# Altium schematic symbol library ngv-main.SCHLIB: 4 symbols
Pins are listed as number, name and electrical type; pins without a type are passive.

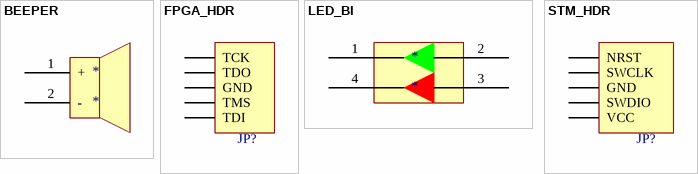
[diagram p0: symbols BEEPER to STM_HDR]

## BEEPER
designator *
footprint BEEPER
pins: 1 +, 2 -

## FPGA_HDR
designator JP?, comment HDR-1X5  (value not drawn)
FPGA; BOM名称: 5P接插件; 版权归属: 源创客; 学习资源: www.ooocke.com
footprint XH2.54-WI-5P (接插件，5P)
footprint XH2.54-LI-5P (接插件，5P)
footprint HDR2.54-LI-5P (排针，5脚)
footprint HDR2.54-M-LI-5P (排母，5脚)
footprint HDR2.54-WI-5P (弯脚排针，5脚)
footprint HDR2.54-WS-5P (5P卧式贴片排针2.54)
footprint HDR2.54-Y-LI-5P (圆孔排母，5脚)
footprint HDR2.54-M-WS-5P (5P卧式贴片排母2.54)
footprint KF2510-LI-5P (接插件/2A)
footprint XH2.54-WS-5P (长：17.5mm，宽：8mm，高：6.1mm)
footprint XH2.54-LS-5P (长：17.5mm，宽：6mm，高：8.3mm)
footprint KF2EDGK-2.54-LI-5P (长：14.6mm，宽：8.1mm，高：10.1mm)
footprint KF2EDGK-2.54-WI-5P (长：14.6mm，宽：10.1mm，高：8.1mm)
pins: 1 TCK, 2 TDO, 3 GND, 4 TMS, 5 TDI

## LED_BI
designator *
footprint LED_BI
pins: 1, 2, 3, 4

## STM_HDR
designator JP?, comment HDR-1X5  (value not drawn)
STM32; BOM名称: 5P接插件; 版权归属: 源创客; 学习资源: www.ooocke.com
footprint XH2.54-WI-5P (接插件，5P)
footprint XH2.54-LI-5P (接插件，5P)
footprint HDR2.54-LI-5P (排针，5脚)
footprint HDR2.54-M-LI-5P (排母，5脚)
footprint HDR2.54-WI-5P (弯脚排针，5脚)
footprint HDR2.54-WS-5P (5P卧式贴片排针2.54)
footprint HDR2.54-Y-LI-5P (圆孔排母，5脚)
footprint HDR2.54-M-WS-5P (5P卧式贴片排母2.54)
footprint KF2510-LI-5P (接插件/2A)
footprint XH2.54-WS-5P (长：17.5mm，宽：8mm，高：6.1mm)
footprint XH2.54-LS-5P (长：17.5mm，宽：6mm，高：8.3mm)
footprint KF2EDGK-2.54-LI-5P (长：14.6mm，宽：8.1mm，高：10.1mm)
footprint KF2EDGK-2.54-WI-5P (长：14.6mm，宽：10.1mm，高：8.1mm)
pins: 1 NRST, 2 SWCLK, 3 GND, 4 SWDIO, 5 VCC